# EAGLE library part MAX17263 (library bschulz)
MAX17263 - Single/Multi-Cell Fuel Gauge with Integrated LED Control Characteristics: Vin: 2.3 ~ 4.9V IQ: 15μA typ ILSB: 1.5625μV VLSB: 78.125μV Operating Temperature: -40°C to 85°C Digikey: 175-MAX17263LETD+TCT-ND <https://www.digikey.com/en/products/detail/maxim-integrated/MAX17263LETD-T/9833463>
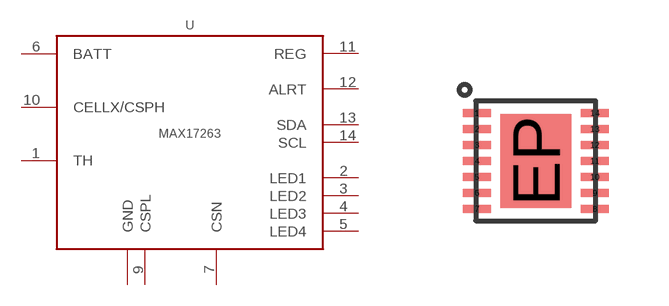
[diagram p136: symbol with the pads of DFN_14_3X3; footprint DFN_14_3X3]

Designator prefix U

## MAX17263 (DIGIKEY: 175-MAX17263LETD+TCT-ND; MF: Maxim; MPN: MAX17263LETD+T)  [DFN_14_3X3]
1  TH  in
2  LED1
3  LED2
4  LED3
5  LED4
6  BATT  pwr
7  CSN  in
8  GND  pwr
9  CSPL  in
10  CELLX/CSPH  in
11  REG  pwr
12  ALRT  oc
13  SDA
14  SCL  in
EP  GND  pwr

## Footprint DFN_14_3X3 (pad centres in mm)
DFN, 14 pos, 3x3mm Datasheet <https://pdfserv.maximintegrated.com/land_patterns/90-0063.PDF> Maxim Package Code: T1433
smd 0.7 x 0.2: 1 -1.475,1.2; 2 -1.475,0.8; 3 -1.475,0.4; 4 -1.475,0; 5 -1.475,-0.4; 6 -1.475,-0.8; 7 -1.475,-1.2; 8 1.475,-1.2; 9 1.475,-0.8; 10 1.475,-0.4; 11 1.475,0; 12 1.475,0.4; 13 1.475,0.8; 14 1.475,1.2
smd 1.78 x 2.35: EP 0,0